# Altium schematic symbol library Amps.SchLib: 3 symbols
Pins are listed as number, name and electrical type; pins without a type are passive.

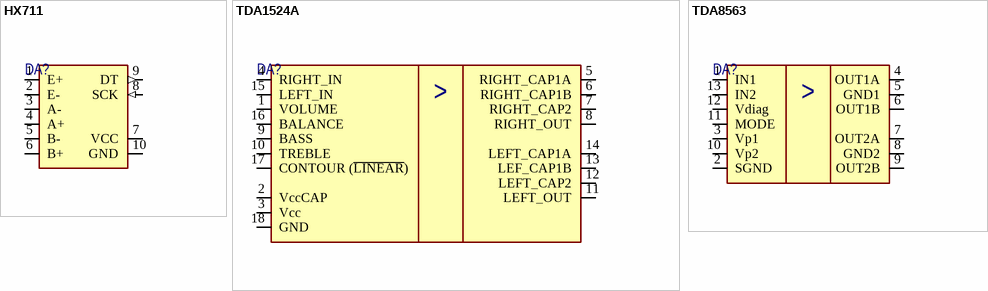
[diagram p0: symbols HX711 to TDA8563]

## HX711
designator DA?, comment HX711_tensorAmp
Tensor Amplifier; Manufacturer: China; ComponentLink1Description: Datasheet; Price: 171.78; ManufacturerPartNumber: HX711_tensorAmp; Note: *; Package: DIP-18; Supplier: Промэлектроника; Value: *
footprint HX711
pins: 1 E+, 2 E-, 3 A-, 4 A+, 5 B-, 6 B+, 7 VCC (power), 8 SCK (in), 9 DT (out), 10 GND (power)

## TDA1524A
designator DA?
Stereo-tone/volume control circuit; Manufacturer: NXP; ComponentLink1Description: Datasheet; ComponentLink1URL: http://pdf.datasheetcatalog.com/datasheet/philips/TDA1524.pdf; Price: 171.78; ManufacturerPartNumber: TDA1524A; Note: *; Package: DIP-18; Supplier: Промэлектроника; Value: *
footprint DIP18
pins: 1 VOLUME, 2 VccCAP, 3 Vcc, 4 RIGHT_IN, 5 RIGHT_CAP1A, 6 RIGHT_CAP1B, 7 RIGHT_CAP2, 8 RIGHT_OUT, 9 BASS, 10 TREBLE, 11 LEFT_OUT, 12 LEFT_CAP2, 13 LEF_CAP1B, 14 LEFT_CAP1A, 15 LEFT_IN, 16 BALANCE, 17 CONTOUR (~{LINEAR}), 18 GND
text: >

## TDA8563
designator DA?, comment TDA8563Q
2 × 40 W/2 Ω stereo BTL car radio  power amplifier with diagnostic  facility; Manufacturer: NXP; Value: 2x40W; ComponentLink1Description: Datasheet; ComponentLink1URL: http://yooree.narod.ru/info/TDA8563Q.pdf; Price: 305.32; ManufacturerPartNumber: TDA8563Q; Note: *; Package: SIL-13; Supplier: Промэлектроника
footprint SIP-13
pins: 1 IN1, 2 SGND, 3 Vp1, 4 OUT1A, 5 GND1, 6 OUT1B, 7 OUT2A, 8 GND2, 9 OUT2B, 10 Vp2, 11 MODE, 12 Vdiag, 13 IN2
text: >